# Altium schematic symbol library ERJ-U6SFR10V.SchLib: 1 symbol
Pins are listed as number, name and electrical type; pins without a type are passive.

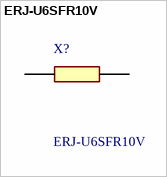
[diagram p0: symbol ERJ-U6SFR10V]

## ERJ-U6SFR10V
designator X?
Thick Film Resistors - SMD 0805 0.25W 1% .10ohms AEC-Q200; Manufacturer_Name: Panasonic; Geometry.Height: 0.65mm; Manufacturer_Part_Number: ERJ-U6SFR10V; Mouser Part Number: 667-ERJ-U6SFR10V; Mouser Price/Stock: https://www.mouser.co.uk/ProductDetail/Panasonic/ERJ-U6SFR10V?qs=5aG0NVq1C4yf0cMjBzyp%2Fw%3D%3D; Arrow Part Number: ERJ-U6SFR10V; Arrow Price/Stock: https://www.arrow.com/en/products/erj-u6sfr10v/panasonic?region=nac; Datasheet Link: https://industrial.panasonic.com/cdbs/www-data/pdf/RDP0000/AOA0000C334.pdf
footprint RESC2012X65N
pins: 1, 2